# EAGLE library part LT1713IMS8#PBF (library LT1713IMS8_PBF)
Check availability <https://pricing.snapeda.com/parts/LT1713IMS8%23PBF/Analog%20Devices/view-part?ref=eda>
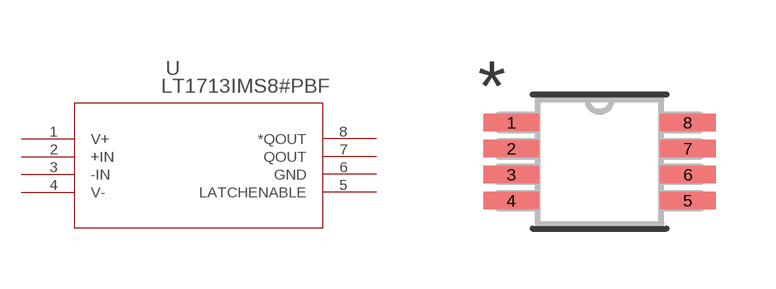
[diagram p0: symbol with the pads of MSOP-8_MS; footprint MSOP-8_MS]

Designator prefix U

## LT1713IMS8#PBF (Availability: In Stock; Check_prices: https://www.snapeda.com/parts/LT1713IMS8%23PBF/Analog+Devices/view-part/?ref=eda; Description: Linear IC - Comparator Linear Technology LT1713IMS8#PBF + lock CMOS, Complementary, Rail-to-rail, TTL MSOP 8; MF: Analog Devices; MP: LT1713IMS8#PBF; Package: MSOP-8 Linear Technology; Price: None; Purchase-URL: https://www.snapeda.com/api/url_track_click_mouser/?unipart_id=601002&manufacturer=Analog Devices&part_name=LT1713IMS8#PBF&search_term=None; SnapEDA_Link: https://www.snapeda.com/parts/LT1713IMS8%23PBF/Analog+Devices/view-part/?ref=snap)  [MSOP-8_MS]
1  V+  pwr
2  +IN  in
3  -IN  in
4  V-  pwr
5  LATCHENABLE  in
6  GND  pwr
7  QOUT  out
8  *QOUT  out

## Footprint MSOP-8_MS (pad centres in mm)
smd 1.397 x 0.432: 1 -2.21,0.975; 2 -2.21,0.325; 3 -2.21,-0.325; 4 -2.21,-0.975; 5 2.21,-0.975; 6 2.21,-0.325; 7 2.21,0.325; 8 2.21,0.975